# EAGLE library part EZ80F91 (library Zilog-eZ80-v1_0)
eZ80F91 with on-chip 10/100 BaseT Ethernet MAC.
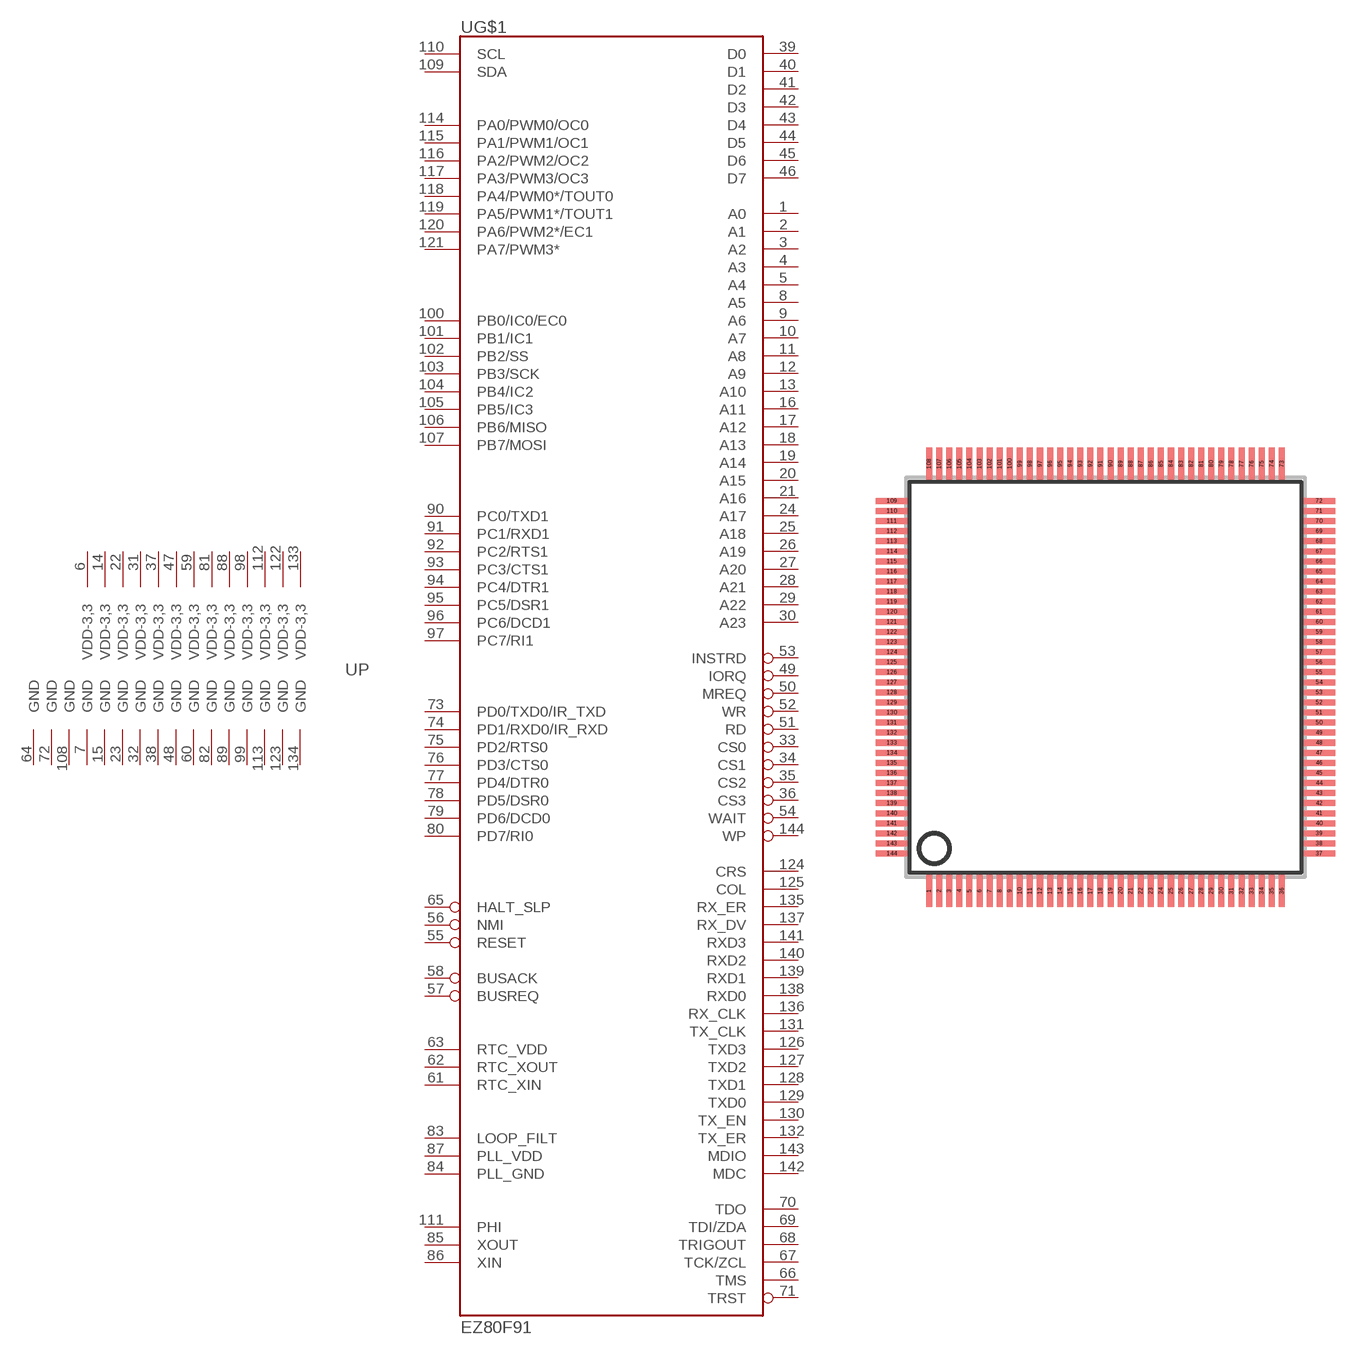
[diagram p2: symbol with the pads of SQFP-S-20X20-144; footprint SQFP-S-20X20-144]

Designator prefix U; gates P=PWR80F91 G$1=EZ80F91

## EZ80F91AZ  [SQFP-S-20X20-144]
1  G$1:A0
2  G$1:A1
3  G$1:A2
4  G$1:A3
5  G$1:A4
6  P:VDD-3,3  pwr
7  P:GND  pwr
8  G$1:A5
9  G$1:A6
10  G$1:A7
11  G$1:A8
12  G$1:A9
13  G$1:A10
14  P:VDD-3,3  pwr
15  P:GND  pwr
16  G$1:A11
17  G$1:A12
18  G$1:A13
19  G$1:A14
20  G$1:A15
21  G$1:A16
22  P:VDD-3,3  pwr
23  P:GND  pwr
24  G$1:A17
25  G$1:A18
26  G$1:A19
27  G$1:A20
28  G$1:A21
29  G$1:A22
30  G$1:A23
31  P:VDD-3,3  pwr
32  P:GND  pwr
33  G$1:CS0  out
34  G$1:CS1  out
35  G$1:CS2  out
36  G$1:CS3  out
37  P:VDD-3,3  pwr
38  P:GND  pwr
39  G$1:D0
40  G$1:D1
41  G$1:D2
42  G$1:D3
43  G$1:D4
44  G$1:D5
45  G$1:D6
46  G$1:D7
47  P:VDD-3,3  pwr
48  P:GND  pwr
49  G$1:IORQ
50  G$1:MREQ
51  G$1:RD  out
52  G$1:WR  out
53  G$1:INSTRD  out
54  G$1:WAIT  in
55  G$1:RESET  in
56  G$1:NMI  in
57  G$1:BUSREQ  in
58  G$1:BUSACK  out
59  P:VDD-3,3  pwr
60  P:GND  pwr
61  G$1:RTC_XIN  in
62  G$1:RTC_XOUT
63  G$1:RTC_VDD  pwr
64  P:GND  pwr
65  G$1:HALT_SLP  out
66  G$1:TMS  in
67  G$1:TCK/ZCL  in
68  G$1:TRIGOUT  out
69  G$1:TDI/ZDA
70  G$1:TDO  out
71  G$1:TRST  in
72  P:GND  pwr
73  G$1:PD0/TXD0/IR_TXD
74  G$1:PD1/RXD0/IR_RXD
75  G$1:PD2/RTS0
76  G$1:PD3/CTS0
77  G$1:PD4/DTR0
78  G$1:PD5/DSR0
79  G$1:PD6/DCD0
80  G$1:PD7/RI0
81  P:VDD-3,3  pwr
82  P:GND  pwr
83  G$1:LOOP_FILT  pas
84  G$1:PLL_GND  pwr
85  G$1:XOUT  out
86  G$1:XIN  in
87  G$1:PLL_VDD  pwr
88  P:VDD-3,3  pwr
89  P:GND  pwr
90  G$1:PC0/TXD1
91  G$1:PC1/RXD1
92  G$1:PC2/RTS1
93  G$1:PC3/CTS1
94  G$1:PC4/DTR1
95  G$1:PC5/DSR1
96  G$1:PC6/DCD1
97  G$1:PC7/RI1
98  P:VDD-3,3  pwr
99  P:GND  pwr
100  G$1:PB0/IC0/EC0
101  G$1:PB1/IC1
102  G$1:PB2/SS
103  G$1:PB3/SCK
104  G$1:PB4/IC2
105  G$1:PB5/IC3
106  G$1:PB6/MISO
107  G$1:PB7/MOSI
108  P:GND  pwr
109  G$1:SDA
110  G$1:SCL
111  G$1:PHI  out
112  P:VDD-3,3  pwr
113  P:GND  pwr
114  G$1:PA0/PWM0/OC0
115  G$1:PA1/PWM1/OC1
116  G$1:PA2/PWM2/OC2
117  G$1:PA3/PWM3/OC3
118  G$1:PA4/PWM0*/TOUT0
119  G$1:PA5/PWM1*/TOUT1
120  G$1:PA6/PWM2*/EC1
121  G$1:PA7/PWM3*
122  P:VDD-3,3  pwr
123  P:GND  pwr
124  G$1:CRS  in
125  G$1:COL  in
126  G$1:TXD3  out
127  G$1:TXD2  out
128  G$1:TXD1  out
129  G$1:TXD0  out
130  G$1:TX_EN  out
131  G$1:TX_CLK  in
132  G$1:TX_ER  out
133  P:VDD-3,3  pwr
134  P:GND  pwr
135  G$1:RX_ER  in
136  G$1:RX_CLK  in
137  G$1:RX_DV  in
138  G$1:RXD0  in
139  G$1:RXD1  in
140  G$1:RXD2  in
141  G$1:RXD3  in
142  G$1:MDC  out
143  G$1:MDIO
144  G$1:WP  in

## Footprint SQFP-S-20X20-144 (pad centres in mm)
LQFP-144; 0,5mm pitch shrink quad flat pack, square
smd 0.3 x 1.6: 1 -8.75,-10.6; 2 -8.25,-10.6; 3 -7.75,-10.6; 4 -7.25,-10.6; 5 -6.75,-10.6; 6 -6.25,-10.6; 7 -5.75,-10.6; 8 -5.25,-10.6; 9 -4.75,-10.6; 10 -4.25,-10.6; 11 -3.75,-10.6; 12 -3.25,-10.6; 13 -2.75,-10.6; 14 -2.25,-10.6; 15 -1.75,-10.6; 16 -1.25,-10.6; 17 -0.75,-10.6; 18 -0.25,-10.6; 19 0.25,-10.6; 20 0.75,-10.6; 21 1.25,-10.6; 22 1.75,-10.6; 23 2.25,-10.6; 24 2.75,-10.6; 25 3.25,-10.6; 26 3.75,-10.6; 27 4.25,-10.6; 28 4.75,-10.6; 29 5.25,-10.6; 30 5.75,-10.6; 31 6.25,-10.6; 32 6.75,-10.6; 33 7.25,-10.6; 34 7.75,-10.6; 35 8.25,-10.6; 36 8.75,-10.6; 73 8.75,10.6; 74 8.25,10.6; 75 7.75,10.6; 76 7.25,10.6; 77 6.75,10.6; 78 6.25,10.6; 79 5.75,10.6; 80 5.25,10.6; 81 4.75,10.6; 82 4.25,10.6; 83 3.75,10.6; 84 3.25,10.6; 85 2.75,10.6; 86 2.25,10.6; 87 1.75,10.6; 88 1.25,10.6; 89 0.75,10.6; 90 0.25,10.6; 91 -0.25,10.6; 92 -0.75,10.6; 93 -1.25,10.6; 94 -1.75,10.6; 95 -2.25,10.6; 96 -2.75,10.6; 97 -3.25,10.6; 98 -3.75,10.6; 99 -4.25,10.6; 100 -4.75,10.6; 101 -5.25,10.6; 102 -5.75,10.6; 103 -6.25,10.6; 104 -6.75,10.6; 105 -7.25,10.6; 106 -7.75,10.6; 107 -8.25,10.6; 108 -8.75,10.6
smd 1.6 x 0.3: 37 10.6,-8.75; 38 10.6,-8.25; 39 10.6,-7.75; 40 10.6,-7.25; 41 10.6,-6.75; 42 10.6,-6.25; 43 10.6,-5.75; 44 10.6,-5.25; 45 10.6,-4.75; 46 10.6,-4.25; 47 10.6,-3.75; 48 10.6,-3.25; 49 10.6,-2.75; 50 10.6,-2.25; 51 10.6,-1.75; 52 10.6,-1.25; 53 10.6,-0.75; 54 10.6,-0.25; 55 10.6,0.25; 56 10.6,0.75; 57 10.6,1.25; 58 10.6,1.75; 59 10.6,2.25; 60 10.6,2.75; 61 10.6,3.25; 62 10.6,3.75; 63 10.6,4.25; 64 10.6,4.75; 65 10.6,5.25; 66 10.6,5.75; 67 10.6,6.25; 68 10.6,6.75; 69 10.6,7.25; 70 10.6,7.75; 71 10.6,8.25; 72 10.6,8.75; 109 -10.6,8.75; 110 -10.6,8.25; 111 -10.6,7.75; 112 -10.6,7.25; 113 -10.6,6.75; 114 -10.6,6.25; 115 -10.6,5.75; 116 -10.6,5.25; 117 -10.6,4.75; 118 -10.6,4.25; 119 -10.6,3.75; 120 -10.6,3.25; 121 -10.6,2.75; 122 -10.6,2.25; 123 -10.6,1.75; 124 -10.6,1.25; 125 -10.6,0.75; 126 -10.6,0.25; 127 -10.6,-0.25; 128 -10.6,-0.75; 129 -10.6,-1.25; 130 -10.6,-1.75; 131 -10.6,-2.25; 132 -10.6,-2.75; 133 -10.6,-3.25; 134 -10.6,-3.75; 135 -10.6,-4.25; 136 -10.6,-4.75; 137 -10.6,-5.25; 138 -10.6,-5.75; 139 -10.6,-6.25; 140 -10.6,-6.75; 141 -10.6,-7.25; 142 -10.6,-7.75; 143 -10.6,-8.25; 144 -10.6,-8.75